# EAGLE library part AO21282CI (library AO21282CI)
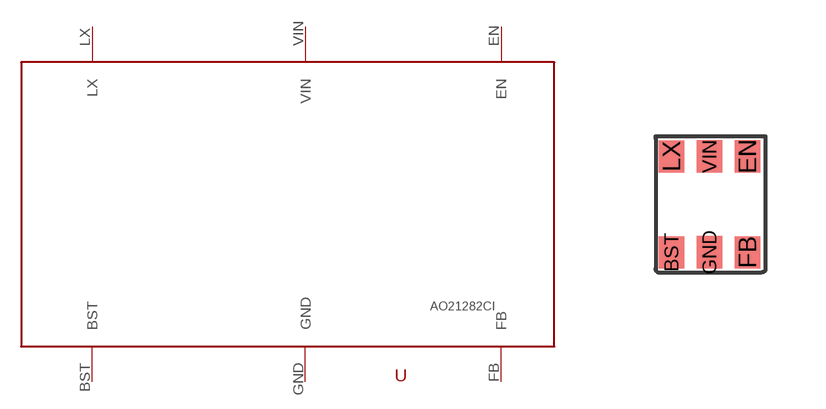
[diagram p0: symbol with the pads of AO21282CI; footprint AO21282CI]

Designator prefix -

## AO21282CI  [AO21282CI]
BST  BST
EN  EN
FB  FB
GND  GND
LX  LX
VIN  VIN

## Footprint AO21282CI (pad centres in mm)
smd 0.63 x 0.8: BST -0.95,-1.2; FB 0.95,-1.2; LX -0.95,1.2
smd 0.635 x 0.8: EN 0.95,1.2; GND 0,-1.2; VIN 0,1.2